# Altium schematic symbol library SCH_Diodes.SchLib: 18 symbols
Pins are listed as number, name and electrical type; pins without a type are passive.

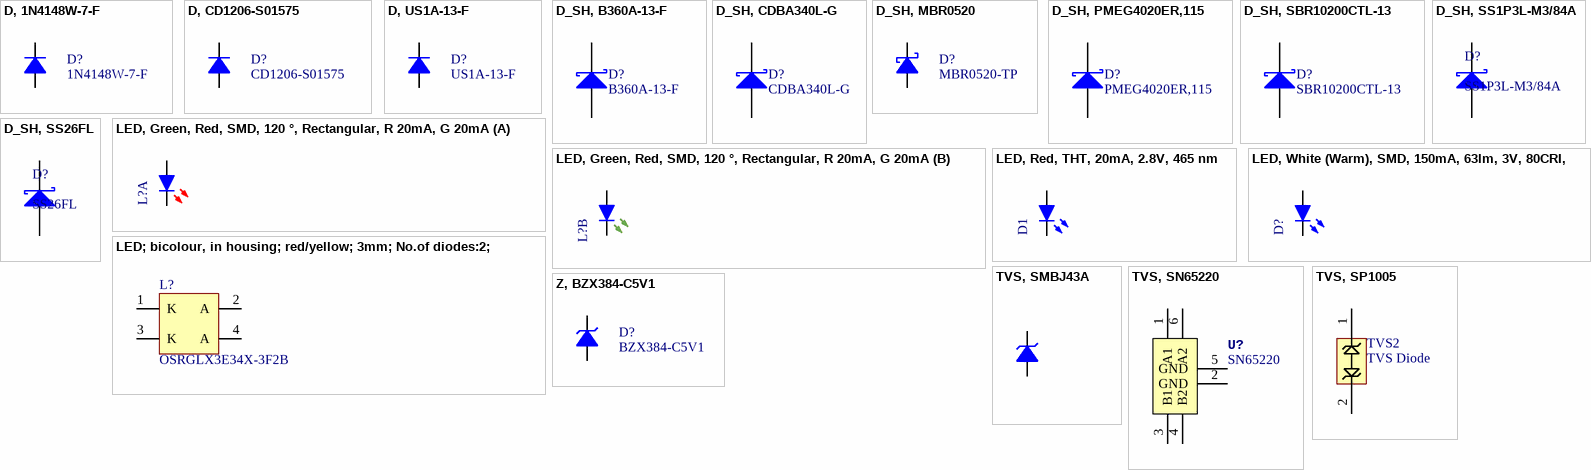
[diagram p0: symbols D, 1N4148W-7-F to Z, BZX384-C5V1]

## D, 1N4148W-7-F
designator D?, comment 1N4148W-7-F
DIODE, ULTRAFAST RECOVERY, 300mA, 75V, SOD-123-2; MF: MULTICOMP; MPN: 1N4148W-7-F
footprint SOD-123 (Molded Diode, 2-Leads, Body 2,70x1,55mm)
pins: 1 A, 2 K

## D, CD1206-S01575
designator D?, comment CD1206-S01575
DIODE, ULTRAFAST RECOVERY, 150mA, 100V, 1206; MF: BOURNS; MPN: CD1206-S01575
footprint CD1206-S01575, DIOC3215X10N (Chip Diode, 2-Leads, Body 3,20x1,50mm, IPC Medium Density)
pins: 1 A, 2 K

## D, US1A-13-F
designator D?, comment US1A-13-F
50V, 1.0A, ULTRA-FAST RECTIFIER, SMA; MF: Diodes Incorporated; MPN: US1A-13-F
footprint SMA (DO-214AC) (Molded Diode, 2-Leads, Body 4,30x2,60mm)
pins: 1 A, 2 K

## D_SH, B360A-13-F
designator D?, comment B360A-13-F
Schottky Rectifier, 60 V, 3 A, Single, DO-214AC, 2 Pins, 700 mV; MF: DIODES INC.; MPN: B360A-13-F
footprint SMA (DO-214AC) (Molded Diode, 2-Leads, Body 4,30x2,60mm)
pins: 1 A, 2 K

## D_SH, CDBA340L-G
designator D?, comment CDBA340L-G
Diode Schottky 40V 3A Surface Mount DO-214AC (SMA); MF: Comchip Technology; MPN: CDBA340L-G
footprint SMA (DO-214AC) (Molded Diode, 2-Leads, Body 4,30x2,60mm)
pins: 1 A, 2 K

## D_SH, MBR0520
designator D?, comment MBR0520-TP
SCHOTTKY RECTIFIERS, 500mA, 20V, SOD-123; MF: MICRO COMMERCIAL COMPONENTS; MPN: MBR0520-TP
footprint SOD-123 (Molded Diode, 2-Leads, Body 2,70x1,55mm)
pins: 1 A, 2 K

## D_SH, PMEG4020ER,115
designator D?, comment PMEG4020ER,115
Diode Schottky 40V 2A Surface Mount CFP3; MF: Nexperia USA Inc.; MPN: PMEG4020ER,115
footprint D_SH, PMEG4020ER,115 (SODFL, 2-Leads, Body 1,70x3,50mm, IPC Medium Density)
pins: 1 K, 2 A

## D_SH, SBR10200CTL-13
designator D?, comment SBR10200CTL-13
Diode Array 1 Pair Common Cathode Super Barrier 200V 5A Surface Mount TO-252-3, DPak (2 Leads + Tab), SC-63; MF: Diodes Incorporated; MPN: SBR10200CTL-13
footprint SBR10200CTL-13, DPAK229P991X239-3M (D-PAK, 3-Pads, Body 6,20x6,71mm (max), IPC Low Density)
pins: 1 A, 2 K

## D_SH, SS1P3L-M3/84A
designator D?, comment SS1P3L-M3/84A
Schottky Diodes & Rectifiers 30volt 1.0amp; MF: Vishay Semiconductors; MPN: SS1P3L-M3/84A
footprint D_SH, SS1P3L-M3/84A (Footprint not found)
pins: 1 K, 2 A

## D_SH, SS26FL
designator D?, comment SS26FL
Schottky Rectifier, 60 V, 2 A, Single, SOD-123F, 2 Pins, 700 mV; MF: ON SEMICONDUCTOR; MPN: SS26FL
footprint D_SH, SS26FL, SODFL127P600-8N
pins: 1 K, 2 A

## LED, Green, Red, SMD, 120 °, Rectangular, R 20mA, G 20mA
designator L?  (value not drawn)
LED, Green, Red, SMD, 120 °, Rectangular, R 20mA, G 20mA; MPN: KPTB-1615ESGC; MF: KINGBRIGHT; Current rating: 20mA; Colour: Green, Red
footprint LED_MULTI_SMD_1210
part A pins: 1, 2
part B pins: 3, 4

## LED, Red, THT, 20mA, 2.8V, 465 nm
designator D1, comment +3V3_GOOD  (value not drawn)
LED, Blue, SMD, 20mA, 2.8V, 465 nm; MPN: LTST-C191TBKT-5A; MF: Lite-On; Current rating: 20mA; Colour: Blue
footprint LED_0603
footprint LED 3mm (THT LED 3mm, 2.54 pitch)
pins: 1 A, 2 K

## LED, White (Warm), SMD, 150mA, 63lm, 3V, 80CRI,
designator D?, comment ?  (value not drawn)
High Power LEDs - White White, 63lm 3V, 80CRI; MPN: JE2835AWT-00-0000-000A0HG727E; MF: Cree, Inc.; Current rating: 150mA; Colour: White (warm)
footprint LED_2835 (JE2835AWT-00-0000-000A0HG727E)
pins: 1 A, 2 K

## LED; bicolour, in housing; red/yellow; 3mm; No.of diodes:2; 20mA
designator L?, comment OSRGLX3E34X-3F2B
LED; bicolour, in housing; red/yellow; 3mm; No.of diodes:2; 20mA; MF: OPTOSUPPLY; MPN: OSRGLX3E34X-3F2B
footprint LED_MULTI_THT, OSRGLX3E34X-3F2B
pins: 1 K, 2 A, 3 K, 4 A

## TVS, SMBJ43A
designator D?, comment SMBJ43A
TVS Diode, SMBJ Series, Unidirectional, 43 V, 69.4 V, DO-214AA, 2 Pins; MF: ON SEMICONDUCTOR; MPN: SMBJ43A
footprint SMB (DO-214AA) (Molded Diode, 2-Leads, Body 4,31x3,62mm)
pins: 1 A, 2 K

## TVS, SN65220
designator U?, comment SN65220
USB Port Transient Suppressor; MPN: SN65220DBVR; MF: Texas Instruments
footprint SOT-236 (SOT23, 6-Leads, Body 2,90x2,75mm, Pitch 0,95mm)
pins: 1 A1, 2 GND, 3 B1, 4 B2, 5 GND, 6 A2

## TVS, SP1005
designator TVS2, comment TVS Diode
TVS Diode Array 1CH 30KV 6V; MPN: SP1005-01ETG; MF: Littlefuse
footprint TVS, SP1005, SODFL400X108-2N (SODFL, 2-Leads, Body 1,72x4,00mm, IPC Medium Density)
pins: 1, 2

## Z, BZX384-C5V1
designator D?, comment BZX384-C5V1
Zener Single Diode, 5.1 V, 300 mW, SOD-323, 5 %, 2 Pins, 150 °C; MF: NEXPERIA; MPN: BZX384-C5V1
footprint SOD-323 (Molded Diode, 2-Leads, Body 1,70x1,30mm)
pins: 1 A, 2 K